# EAGLE library part MAGI³C-LDHM_172946001 (library Wurth_LED Driver_MagI³C-LDHM)
MagI³C-LDHM LED Step Down High Current Module Characteristics Leaded package for easy manufacturing and prototyping Simple layout PWM and analog dimming supported Adjustable LED current Low conducted and radiated EMI (compliant to EN55015) Applications Indoor lighting: Spot light, down light Outdoor lighting: Street light, security light, tunnel light Outdoor lighting: High-bay light, low-bay light <https://katalog.we-online.de/media/images/v2/o55812v209%20Family_LED-Driver_Module_WE-LDHM_7EP.jpg> Details see: https://katalog.we-online.de/en/pm/MAGIC-LDHM-TOP263-7EP <hhttps://katalog.we-online.de/en/pm/MAGIC-LDHM-TOP263-7EP> Updated by Ella Wu, 2019-09-18 2019 (C) Würth Elektronik
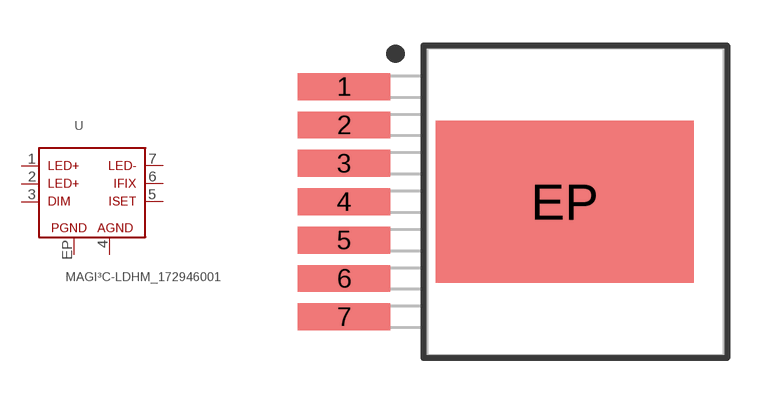
[diagram p0: symbol with the pads of MAGI³C-LDHM_172946001; footprint MAGI³C-LDHM_172946001]

Designator prefix U

## MAGI³C-LDHM_172946001 (DATASHEET-URL: https://katalog.we-online.de/pm/datasheet/172946001.pdf; I-OUTPUT: 450mA; MOUNT: SMT; PART-NUMBER: 172946001; V-INPUT: 4.5-60V; V-OUTPUT: 4.5-60V)  [MAGI³C-LDHM_172946001]
1  LED+  pwr
2  LED1+  pwr
3  DIM  in
4  AGND  pwr
5  ISET  in
6  IFIX  in
7  LED-  in
EP  PGND  pwr

## Footprint MAGI³C-LDHM_172946001 (pad centres in mm)
MagI³C-LDHM LED Step Down High Current Module
smd 3.06 x 0.89: 1 -7.305,3.81; 2 -7.305,2.54; 3 -7.305,1.27; 4 -7.305,0; 5 -7.305,-1.27; 6 -7.305,-2.54; 7 -7.305,-3.81
smd 8.54 x 5.35: EP 0,0